# EAGLE library part LM311 (library be_opamp_comparator)
edited: Mario Blunk / Blunk electronic
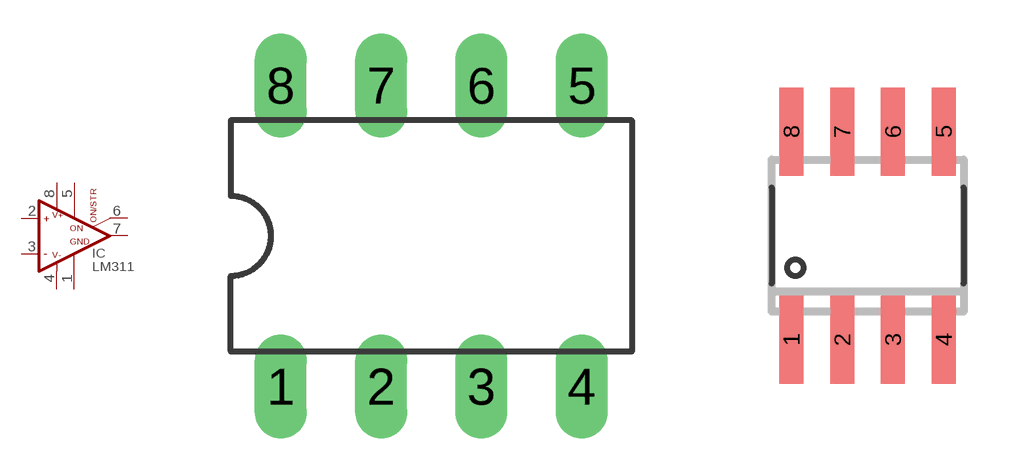
[diagram p2: symbol with the pads of T_NDIP08; footprints T_NDIP08, S_SO8]

Designator prefix IC

## LM311P (BOM: YES; COMMISSIONED: 2016-11-16; PART_CODE_BEL: IC_PAC_T_NDIP8_VAL_LM311P)  [T_NDIP08]
1  GND  pwr
2  +IN  in
3  -IN  in
4  V-  pwr
5  ON  in
6  ON/STR  in
7  OUT  out
8  V+  pwr

## LM311D (BOM: YES; COMMISSIONED: 2016-11-16; PART_CODE_BEL: IC_PAC_S_SO8_VAL_LM311D)  [S_SO8]
Pads as for T_NDIP08

## Footprint T_NDIP08 (pad centres in mm)
edited: Mario Blunk / Blunk electronic date: 2016-11-16
drill 0.813 long: 1 -3.81,-3.81; 2 -1.27,-3.81; 3 1.27,-3.81; 4 3.81,-3.81; 5 3.81,3.81; 6 1.27,3.81; 7 -1.27,3.81; 8 -3.81,3.81

## Footprint S_SO8 (pad centres in mm)
edited: Mario Blunk date: 2014-11-20
smd 0.6 x 2.2: 1 -1.905,-2.6; 2 -0.635,-2.6; 3 0.635,-2.6; 4 1.905,-2.6; 5 1.905,2.6; 6 0.635,2.6; 7 -0.635,2.6; 8 -1.905,2.6